# EAGLE library part SAMACSYS_PARTS_THS7314D (library goJAMMAv02)
Video Amp Triple 3.3V/5V 8-Pin SOIC THS7314D, Video Amplifier 3-channel, 8-Pin SOIC Source: Datasheet
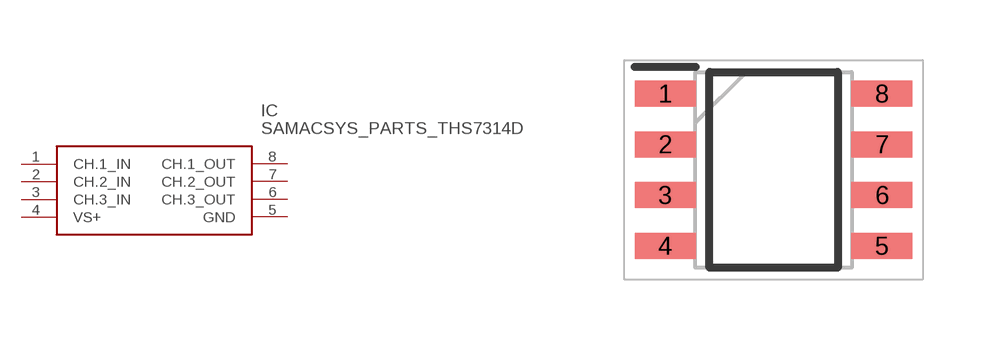
[diagram p10: symbol with the pads of SAMACSYS_PARTS_SOIC127P600X175-8N; footprint SAMACSYS_PARTS_SOIC127P600X175-8N]

Designator prefix IC

## SAMACSYS_PARTS_THS7314D (DESCRIPTION: Video Amp Triple 3.3V/5V 8-Pin SOIC THS7314D, Video Amplifier 3-channel, 8-Pin SOIC; HEIGHT: 1.75mm; MANUFACTURER_NAME: Texas Instruments; MANUFACTURER_PART_NUMBER: THS7314D; MOUSER_PART_NUMBER: 595-THS7314D; MOUSER_PRICE-STOCK: https://www.mouser.com/Search/Refine.aspx?Keyword=595-THS7314D)  [SAMACSYS_PARTS_SOIC127P600X175-8N]
1  CH.1_IN  in
2  CH.2_IN  in
3  CH.3_IN  in
4  VS+
5  GND  pwr
6  CH.3_OUT  out
7  CH.2_OUT  out
8  CH.1_OUT  out

## Footprint SAMACSYS_PARTS_SOIC127P600X175-8N (pad centres in mm)
D (R-PDSO-G8)
smd 1.525 x 0.65: 1 -2.712,1.905; 2 -2.712,0.635; 3 -2.712,-0.635; 4 -2.712,-1.905; 5 2.712,-1.905; 6 2.712,-0.635; 7 2.712,0.635; 8 2.712,1.905